# EAGLE library part PIC18F2525 (library 000_ICS_2021)
Enhanced Flash Microcontroller Source: Datasheet <http://componentsearchengine.com/Datasheets/1/PIC18F242-I_SP.pdf>
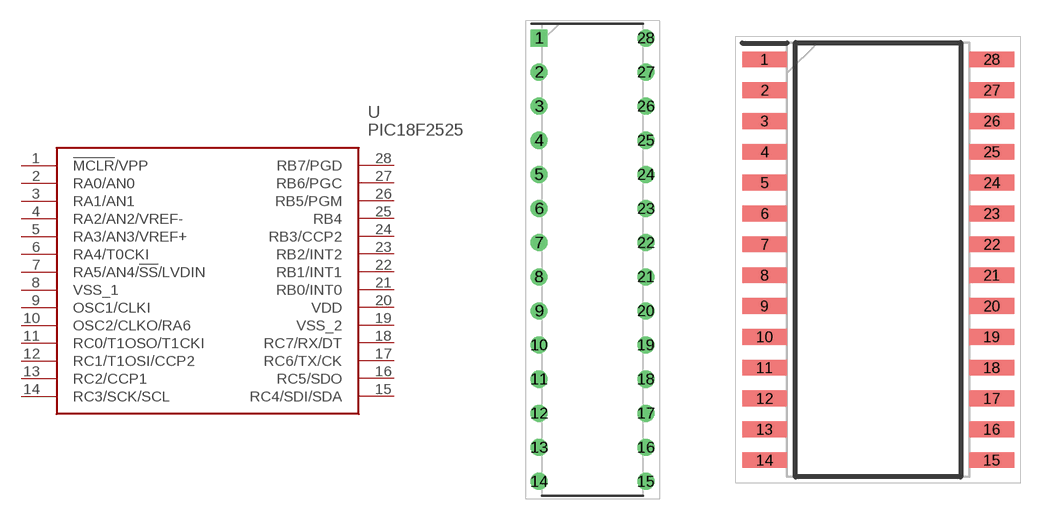
[diagram p5: symbol with the pads of DIP794W56P254L3467H406Q28N; footprints DIP794W56P254L3467H406Q28N, SOIC127P1030X265-28N]

Designator prefix U

## PIC18F2525-I_SP (ICS: ICS-1075)  [DIP794W56P254L3467H406Q28N]
1  !MCLR!/VPP
2  RA0/AN0
3  RA1/AN1
4  RA2/AN2/VREF-
5  RA3/AN3/VREF+
6  RA4/T0CKI
7  RA5/AN4/!SS!/LVDIN
8  VSS_1
9  OSC1/CLKI
10  OSC2/CLKO/RA6
11  RC0/T1OSO/T1CKI
12  RC1/T1OSI/CCP2
13  RC2/CCP1
14  RC3/SCK/SCL
15  RC4/SDI/SDA
16  RC5/SDO
17  RC6/TX/CK
18  RC7/RX/DT
19  VSS_2
20  VDD
21  RB0/INT0
22  RB1/INT1
23  RB2/INT2
24  RB3/CCP2
25  RB4
26  RB5/PGM
27  RB6/PGC
28  RB7/PGD

## PIC18F2525-I_SO (ICS: ICS-1076)  [SOIC127P1030X265-28N]
Pads as for DIP794W56P254L3467H406Q28N

## Footprint DIP794W56P254L3467H406Q28N (pad centres in mm)
pdip28
drill 0.76 pad 1.16 square: 1 -3.97,16.51
drill 0.76 pad 1.16: 2 -3.97,13.97; 3 -3.97,11.43; 4 -3.97,8.89; 5 -3.97,6.35; 6 -3.97,3.81; 7 -3.97,1.27; 8 -3.97,-1.27; 9 -3.97,-3.81; 10 -3.97,-6.35; 11 -3.97,-8.89; 12 -3.97,-11.43; 13 -3.97,-13.97; 14 -3.97,-16.51; 15 3.97,-16.51; 16 3.97,-13.97; 17 3.97,-11.43; 18 3.97,-8.89; 19 3.97,-6.35; 20 3.97,-3.81; 21 3.97,-1.27; 22 3.97,1.27; 23 3.97,3.81; 24 3.97,6.35; 25 3.97,8.89; 26 3.97,11.43; 27 3.97,13.97; 28 3.97,16.51

## Footprint SOIC127P1030X265-28N (pad centres in mm)
(SO)28-Lead(SOIC)
smd 1.85 x 0.65: 1 -4.675,8.255; 2 -4.675,6.985; 3 -4.675,5.715; 4 -4.675,4.445; 5 -4.675,3.175; 6 -4.675,1.905; 7 -4.675,0.635; 8 -4.675,-0.635; 9 -4.675,-1.905; 10 -4.675,-3.175; 11 -4.675,-4.445; 12 -4.675,-5.715; 13 -4.675,-6.985; 14 -4.675,-8.255; 15 4.675,-8.255; 16 4.675,-6.985; 17 4.675,-5.715; 18 4.675,-4.445; 19 4.675,-3.175; 20 4.675,-1.905; 21 4.675,-0.635; 22 4.675,0.635; 23 4.675,1.905; 24 4.675,3.175; 25 4.675,4.445; 26 4.675,5.715; 27 4.675,6.985; 28 4.675,8.255